# Altium schematic symbol library Comparator.SchLib: 3 symbols
Pins are listed as number, name and electrical type; pins without a type are passive.

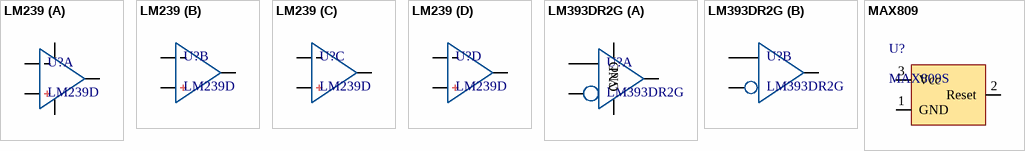
[diagram p0: symbols LM239 to MAX809]

## LM239
designator U?, comment LM239D
OC output Quad 4 input Comp; Type: LM239D
footprint SOIC127P600X175-14N (SOIC, 14-Leads, Body 8.65x3.90mm, Pitch 1.27mm, IPC Medium Density)
part A pins: 1 1OUT, 3 V+, 6 1IN-, 7 1IN+, 12 V-
part B pins: 2 2OUT, 4 2IN-, 5 2IN+
part C pins: 8 3IN-, 9 3IN+, 14 OUT3
part D pins: 10 4IN-, 11 4IN+, 13 OUT4

## LM393DR2G
designator U?
The LM393 series are dual independent precision voltage comparators capable of single or split supply operation.; Type: LM393DR2G
footprint SOIC127P600X175-8N (SOIC, 8-Leads, Body 4.90x3.89mm, Pitch 1.27mm, IPC Medium Density)
part A pins: 1 1OUT, 2 1IN-, 3 1IN+, 4 GND, 8 Vcc (power)
part B pins: 5 2IN+, 6 2IN-, 7 2OUT

## MAX809
designator U?, comment MAX809S
3-Pin Microprocessor Reset Circuits; Type: MAX809S
footprint SOT95P245X110-3N (SOT23, 3-Leads, Body 2.90x2.45mm, Pitch 0.95mm, IPC Medium Density)
pins: 1 GND, 2 Reset, 3 Vcc